# EAGLE library part DAC7568 (library texas-instruments)
DIGITAL-TO-ANALOG CONVERTER
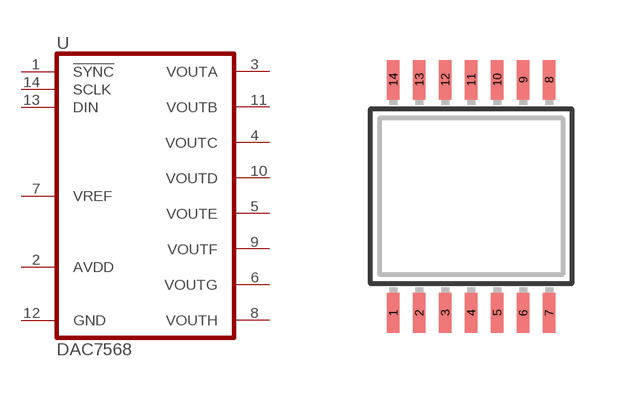
[diagram p19: symbol with the pads of TSSOP14; footprint TSSOP14]

Designator prefix U

## DAC7568PW (DIGIKEY: 296-24403-5-ND; P1I: o)  [TSSOP14]
1  !SYNC!  in
2  AVDD  pwr
3  VOUTA  out
4  VOUTC  out
5  VOUTE  out
6  VOUTG  out
7  VREF  pas
8  VOUTH  out
9  VOUTF  out
10  VOUTD  out
11  VOUTB  out
12  GND  pwr
13  DIN  in
14  SCLK  in

## Footprint TSSOP14 (pad centres in mm)
Thin Shrink Small Outline Plastic 14
smd 0.305 x 0.991: 1 -1.95,-2.918; 2 -1.3,-2.918; 3 -0.65,-2.918; 4 0,-2.918; 5 0.65,-2.918; 6 1.3,-2.918; 7 1.95,-2.918; 8 1.95,2.918; 9 1.3,2.918; 10 0.65,2.918; 11 0,2.918; 12 -0.65,2.918; 13 -1.3,2.918; 14 -1.95,2.918